# Altium footprint library led-7-segment.PCBLIB: 2 footprints
Each footprint in its own frame and in the unit in brackets; x right, y up, seen from the top. Pads: shape width x height; smd on the part's side, far side on the other; paste and mask are expansions set on the pad; w line width, h text height; cw(c..) or ccw(c..) is an arc to the next point about the centre after c.
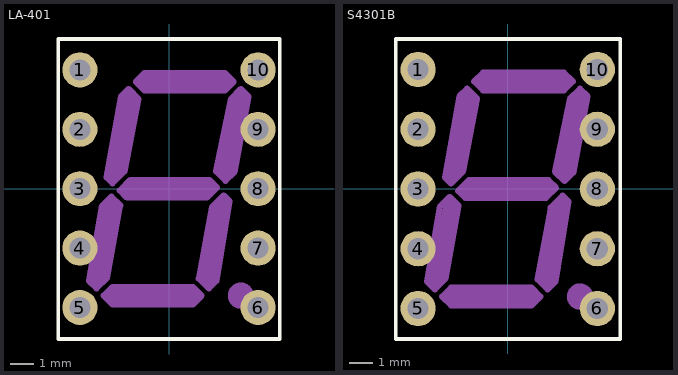
[diagram p0: the footprints below, top view; thin cyan lines are the x and y axes]

## LA-401 [mil]
pads (10):
  round 59.06 hole 35.43: 1(-150,200) 2(-150,100) 3(-150,0) 4(-150,-100) 5(-150,-200) 6(150,-200) 7(150,-100) 8(150,0) 9(150,100) 10(150,200)
Top Overlay:
  lines w6: -186.14,-253.03 186.14,-253.03 186.14,252.05 -186.14,252.05 -186.14,-253.03
Mechanical 16:
  circle w24: c120.98,-180.08 r10
  lines w10: -135.02,-155.08 -113,-29 -97,-13 -82,-28 -104.02,-150.08 -122.02,-168.08 -135.02,-155.08 ; -110.02,-180.08 -95.02,-165.08 39.98,-165.08 54.98,-180.08 39.98,-195.08 -95.02,-195.08 -110.02,-180.08 ; -105,19 -95,9 -75,29 -51.02,151.08 -68.02,168.08 -81.02,155.08 -105,19 ; -83,-3 -65,15 68,15 81,2 64,-15 -71,-15 -83,-3 ; -56.02,180.08 -41.02,165.08 93.98,165.08 108.98,180.08 93.98,195.08 -41.02,195.08 -56.02,180.08 ; 49.98,-151.08 72,-31 92,-11 102,-21 79.98,-155.08 66.98,-168.08 49.98,-151.08 ; 79,29 103.98,151.08 120.98,168.08 133.98,155.08 110,28 95,13 79,29
  lines w12: 115.98,-180.08 125.98,-180.08
  lines w24: -119.02,-150.08 -95,-25 ; -94.02,-180.08 40.98,-180.08 ; -90.98,25.98 -66.06,151.06 ; -70,0 65,0 ; -39.02,180.08 95.98,180.08 ; 65.98,-150.08 90,-25 ; 95,30 120.98,155.08

## S4301B [mil]
pads (10):
  round 59.06 hole 35.43: 1(-150,200) 2(-150,100) 3(-150,0) 4(-150,-100) 5(-150,-200) 6(150,-200) 7(150,-100) 8(150,0) 9(150,100) 10(150,200)
Top Overlay:
  lines w6: -187.13,-251.06 188.11,-251.06 188.11,251.06 -187.13,251.06 -187.13,-251.06
Mechanical 16:
  circle w24: c120.98,-180.08 r10
  lines w10: -135.02,-155.08 -113,-29 -97,-13 -82,-28 -104.02,-150.08 -122.02,-168.08 -135.02,-155.08 ; -110.02,-180.08 -95.02,-165.08 39.98,-165.08 54.98,-180.08 39.98,-195.08 -95.02,-195.08 -110.02,-180.08 ; -105,19 -95,9 -75,29 -51.02,151.08 -68.02,168.08 -81.02,155.08 -105,19 ; -83,-3 -65,15 68,15 81,2 64,-15 -71,-15 -83,-3 ; -56.02,180.08 -41.02,165.08 93.98,165.08 108.98,180.08 93.98,195.08 -41.02,195.08 -56.02,180.08 ; 49.98,-151.08 72,-31 92,-11 102,-21 79.98,-155.08 66.98,-168.08 49.98,-151.08 ; 79,29 103.98,151.08 120.98,168.08 133.98,155.08 110,28 95,13 79,29
  lines w12: 115.98,-180.08 125.98,-180.08
  lines w24: -119.02,-150.08 -95,-25 ; -94.02,-180.08 40.98,-180.08 ; -90.98,25.98 -66.06,151.06 ; -70,0 65,0 ; -39.02,180.08 95.98,180.08 ; 65.98,-150.08 90,-25 ; 95,30 120.98,155.08